# EAGLE library part X25 (library connectors)
Connector 25 pins
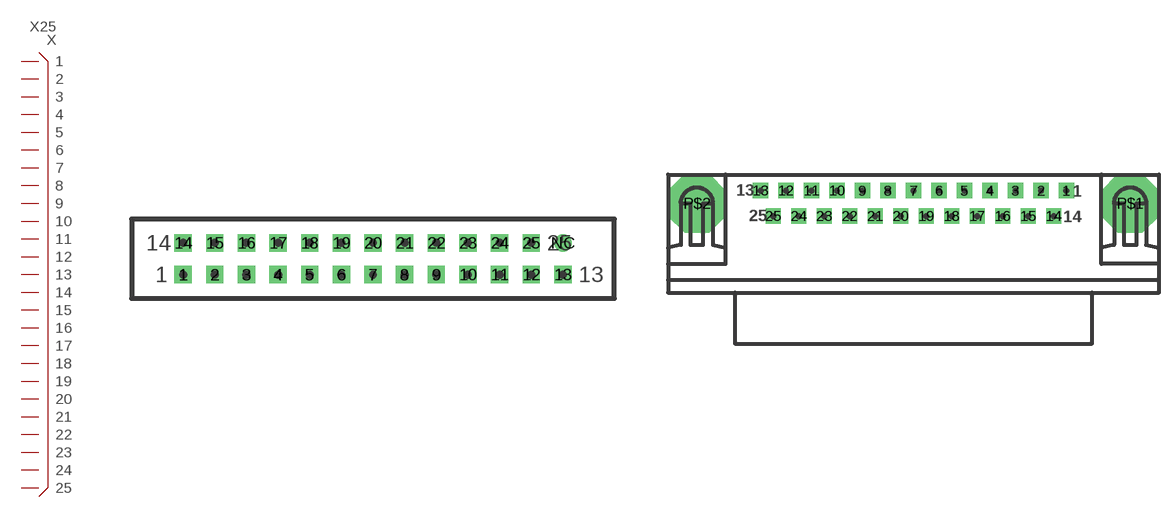
[diagram p63: symbol with the pads of X25-DSUBRIBBON; footprints X25-DSUBRIBBON, X25-DSUBFEMALE1]

Designator prefix X

## X25-DRIB  [X25-DSUBRIBBON]
1  1
2  2
3  3
4  4
5  5
6  6
7  7
8  8
9  9
10  10
11  11
12  12
13  13
14  14
15  15
16  16
17  17
18  18
19  19
20  20
21  21
22  22
23  23
24  24
25  25

## X25-DFEM  [X25-DSUBFEMALE1]
Pads as for X25-DSUBRIBBON

## X25-DMAL  [X25-DSUBMALE1]
Pads as for X25-DSUBRIBBON

## Footprint X25-DSUBRIBBON (pad centres in mm)
Connector 25 pins, reduced pads, for D-Sub connections with ribbon cable
drill 0.889 pad 1.397 square: 1 -15.24,-1.27; 2 -12.7,-1.27; 3 -10.16,-1.27; 4 -7.62,-1.27; 5 -5.08,-1.27; 6 -2.54,-1.27; 7 0,-1.27; 8 2.54,-1.27; 9 5.08,-1.27; 10 7.62,-1.27; 11 10.16,-1.27; 12 12.7,-1.27; 13 15.24,-1.27; 14 -15.24,1.27; 15 -12.7,1.27; 16 -10.16,1.27; 17 -7.62,1.27; 18 -5.08,1.27; 19 -2.54,1.27; 20 0,1.27; 21 2.54,1.27; 22 5.08,1.27; 23 7.62,1.27; 24 10.16,1.27; 25 12.7,1.27
drill 0.889 pad 1.397: NC 15.24,1.27

## Footprint X25-DSUBFEMALE1 (pad centres in mm)
D-SUB connector 25 pins, female American size, with shield soldering pads
drill 0.889 pad 1.651 square: 1 16.5,1.375; 2 13.75,1.375; 3 11,1.375; 4 8.25,1.375; 5 5.5,1.375; 6 2.75,1.375; 7 0,1.375; 8 -2.75,1.375; 9 -5.5,1.375; 10 -8.25,1.375; 11 -11,1.375; 12 -13.75,1.375; 13 -16.5,1.375; 14 15.125,-1.375; 15 12.375,-1.375; 16 9.625,-1.375; 17 6.875,-1.375; 18 4.125,-1.375; 19 1.375,-1.375; 20 -1.375,-1.375; 21 -4.125,-1.375; 22 -6.875,-1.375; 23 -9.625,-1.375; 24 -12.375,-1.375; 25 -15.125,-1.375
drill 3.175 pad 6.35 octagon: P$1 23.375,0; P$2 -23.375,0

## Footprint X25-DSUBMALE1 (pad centres in mm)
D-SUB connector 25 pins, male American size, with shield soldering pads
drill 0.889 pad 1.651 square: 1 -16.5,1.375; 2 -13.75,1.375; 3 -11,1.375; 4 -8.25,1.375; 5 -5.5,1.375; 6 -2.75,1.375; 7 0,1.375; 8 2.75,1.375; 9 5.5,1.375; 10 8.25,1.375; 11 11,1.375; 12 13.75,1.375; 13 16.5,1.375; 14 -15.125,-1.375; 15 -12.375,-1.375; 16 -9.625,-1.375; 17 -6.875,-1.375; 18 -4.125,-1.375; 19 -1.375,-1.375; 20 1.375,-1.375; 21 4.125,-1.375; 22 6.875,-1.375; 23 9.625,-1.375; 24 12.375,-1.375; 25 15.125,-1.375
drill 3.175 pad 6.35 octagon: P$1 23.375,0; P$2 -23.375,0